# Altium schematic symbol library ZX1541 Interfac in THT.SCHLIB: 23 symbols
Pins are listed as number, name and electrical type; pins without a type are passive.

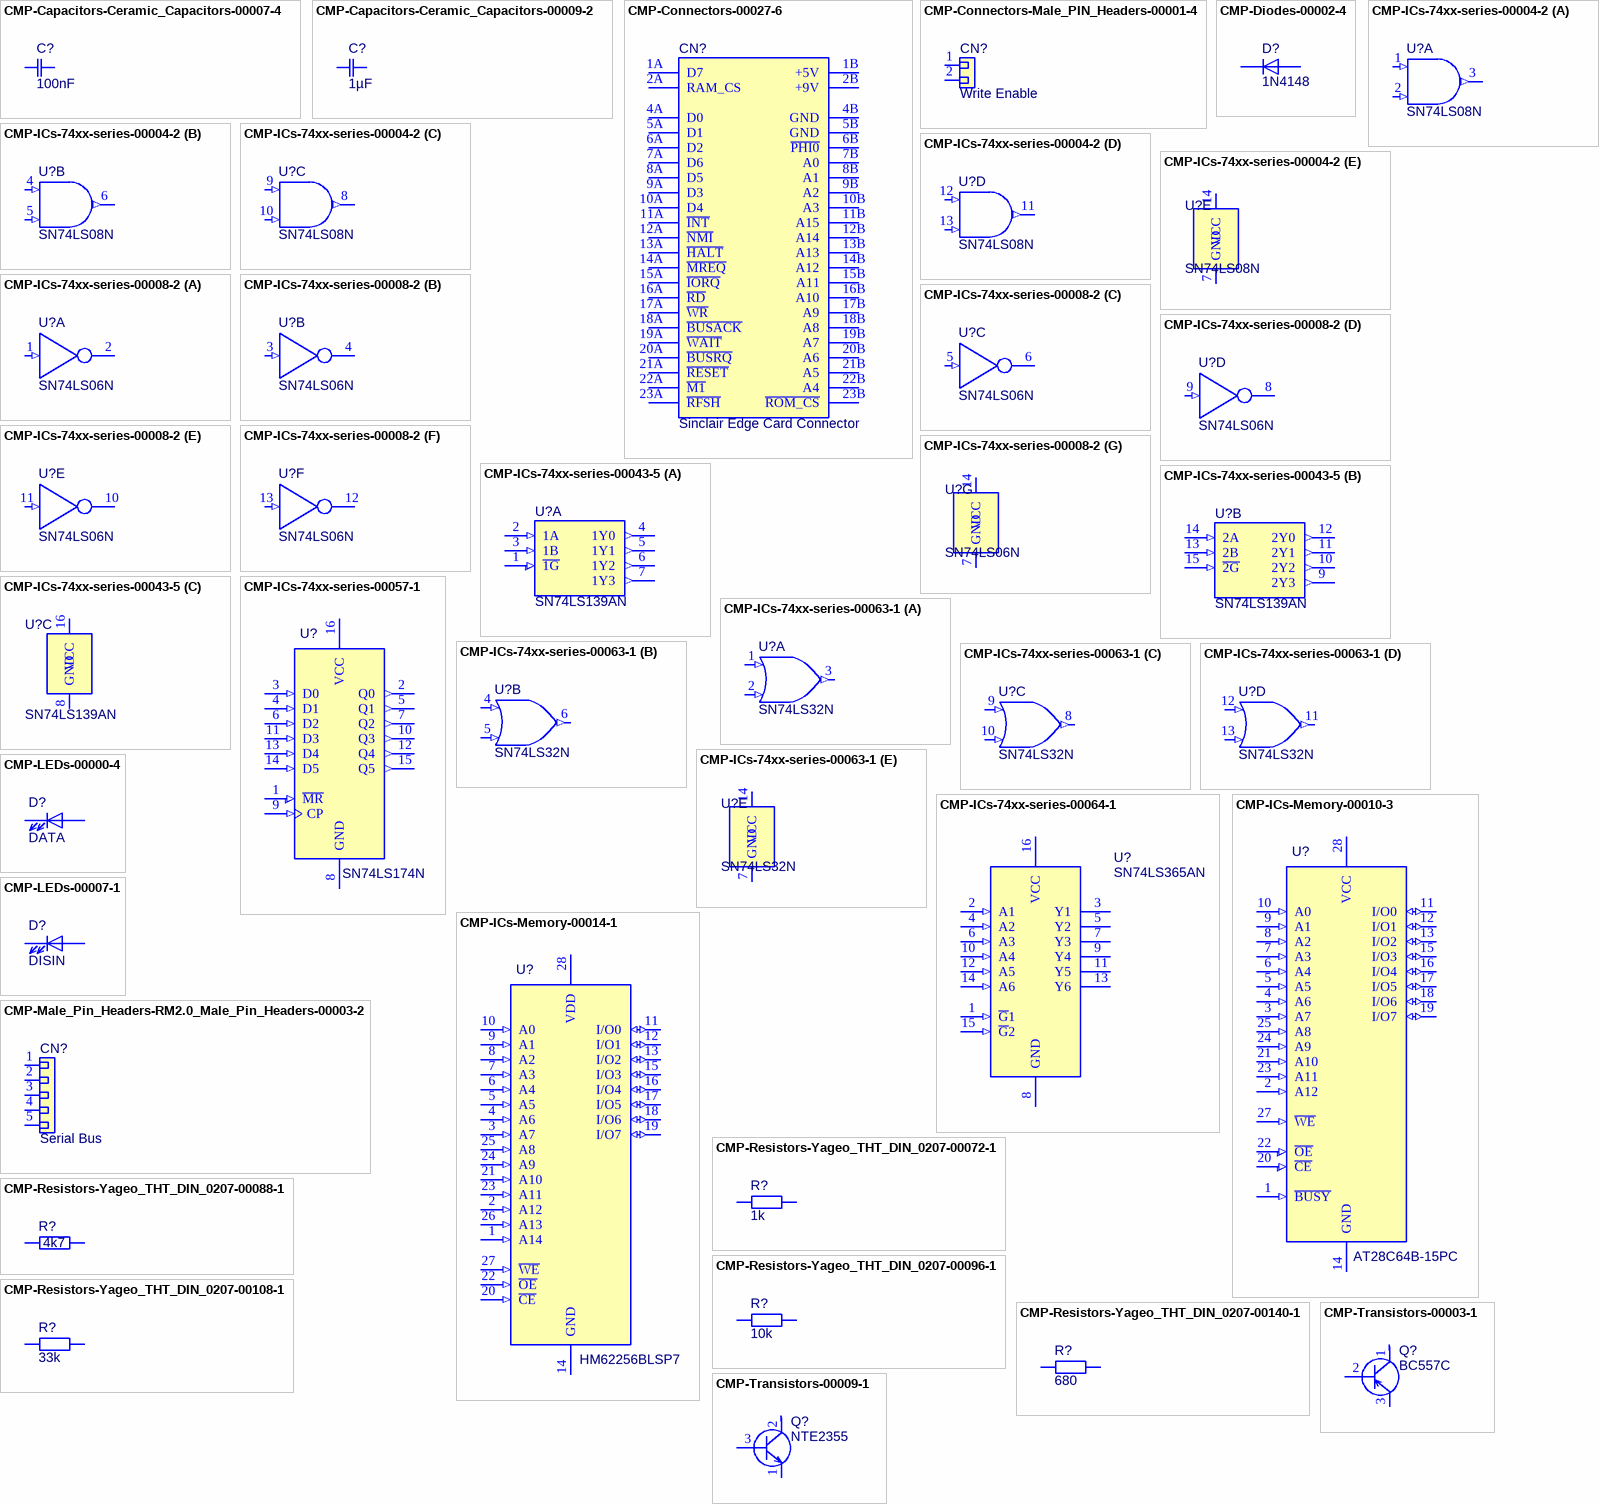
[diagram p0: symbols CMP-Capacitors-Ceramic_Capacitors-00007-4 to CMP-Transistors-00009-1]

## CMP-Capacitors-Ceramic_Capacitors-00007-4
designator C?, comment 100nF
Ceramic Disc Capacitors 100nF -20%~+80% 50V Through Hole,P=2.54mm RoHS; ComponentLink1URL: https://lcsc.com/product-detail/Others_Dersonic-CC1H104ZA1PD3F5O3000_C353909.html; Component Type: Ceramic Capacitors
footprint CAP Disc 100nF P2.54mm D5.5mm T3mm
pins: 1, 2

## CMP-Capacitors-Ceramic_Capacitors-00009-2
designator C?, comment 1µF
Multilayer Ceramic Capacitors MLCC - Leaded 25volts 1uF 10% X7R; Manufacturer: KEMET; Manufacturer Part Number: C315C105K3R5TA; Dissipation Factor: 3.5%; Temperature Coefficient: 2.2ppm/°C; Voltage: 25V; Lead Diameter: 0.51mm; Lead/Base Style: Straight; Height: 2.54mm; Package Quantity: 500; Max Operating Temperature: 125°C; Termination: Radial; Width: 0.1inch; Lead Pitch: 0.1inch; Min Operating Temperature: -55°C; Depth: 2.54mm; Height - Seated (Max): 0.21inch; Voltage Rating (DC): 25V; Length: 0.15inch; Voltage Rating: 25V; Case/Package: Radial; Tolerance: 10%; Dielectric: X7R; Capacitance: 1uF; Packaging: Bulk; Mount: Through Hole,PCB; Dielectric Material: Ceramic; Component Type: Ceramic Capacitors
footprint CAP 1µF C315C105K3R5TA P2.54mm
pins: 1, 2

## CMP-Connectors-00027-6
designator CN?, comment Sinclair Edge Card Connector
Component Type: Connectors
footprint Sinclair Card Connector (C64 Expansion Port EDGE Connector Straight)
pins: 1A D7, 1B +5V (power), 2A RAM_CS, 2B +9V (power), 4A D0, 4B GND (power), 5A D1, 5B GND (power), 6A D2, 6B ~{PHI0}, 7A D6, 7B A0, 8A D5, 8B A1, 9A D3, 9B A2, 10A D4, 10B A3, 11A ~{INT}, 11B A15, 12A ~{NMI}, 12B A14, 13A ~{HALT}, 13B A13, 14A ~{MREQ}, 14B A12, 15A ~{IORQ}, 15B A11, 16A ~{RD}, 16B A10, 17A ~{WR}, 17B A9, 18A ~{BUSACK}, 18B A8, 19A ~{WAIT}, 19B A7, 20A ~{BUSRQ}, 20B A6, 21A ~{RESET}, 21B A5, 22A ~{M1}, 22B A4, 23A ~{RFSH}, 23B ~{ROM_CS}

## CMP-Connectors-Male_PIN_Headers-00001-4
designator CN?, comment Write Enable
CONN HEADER .100" SNGL STR 2POS; Manufacturer: Sullins; Manufacturer Part Number: PRPC002SFAN-RC; Number of Positions: 2; Pitch: 0.1inch; Connector Type: Male Pin; Color: Black; Package Quantity: 1; Mount: Through Hole; Contact Plating: Gold; Contact Mating Length: 0.318inch; Termination: Solder; Number of Rows: 1; Packaging: Bulk; Component Type: Male PIN Headers
footprint Pin Header 01x02 2.54mm Horizontal Male
pins: 1, 2

## CMP-Diodes-00002-4
designator D?, comment 1N4148
NEXPERIA - 1N4148 - DIODE, 1N4148 AMMO-BOX 10K; Manufacturer: NXP Semiconductors; Reverse Recovery Time: 4ns; Capacitance: 4pF; Element Configuration: Single; Current: 4A; Output Current: 200mA; Voltage Rating (DC): 100V; Max Power Dissipation: 500mW; Polarity: Standard; Forward Voltage: 1V; Weight: 0.01lb; Lead Free: Lead Free; Length: 2.5inch; Termination: Axial; Voltage: 100V; Forward Current: 200mA; Width: 0.25inch; Packaging: Ammo Pack; Max Repetitive Reverse Voltage (Vrrm): 100V; Max Operating Temperature: 200°C; Number of Pins: 2; Case/Package: SOD; Max Forward Surge Current (Ifsm): 4A; Height: 0.25inch; Peak Non-Repetitive Surge Current: 4A; Radiation Hardening: No; REACH SVHC: No SVHC; Current Rating: 200mA; Min Operating Temperature: -65°C; Manufacturer Part Number: 1N4148; Component Type: Diodes
footprint 1N4148 P=5.08mm
pins: 1, 2

## CMP-ICs-74xx-series-00004-2
designator U?, comment SN74LS08N
IC GATE AND 4CH 2-INP 14DIP; Manufacturer: Texas Instruments; Low Level Output Current: 8mA; Number of Circuits: 4; Number of Outputs: 1; Schmitt Trigger Input: No; Quiescent Current: 4.4mA; Min Supply Voltage: 4.75V; Number of Input Lines: 2; High Level Output Current: -400uA; Max Supply Voltage: 5.25V; Turn-On Delay Time: 25ns; Operating Supply Voltage: 5V; Propagation Delay: 20ns; Lead Free: Lead Free; Number of Gates: 4; Termination: Through Hole; Height: 4.57mm; Number of Elements: 4; Width: 6.35mm; Logic Function: AND; Weight: 0.032734oz; Max Operating Temperature: 70°C; Number of Bits: 4; Number of Inputs: 2; Number of Output Lines: 1; Packaging: Rail/Tube; Case/Package: PDIP; Mount: Through Hole; Max Output Current: 8mA; Package Quantity: 25; Output Current: 8mA; REACH SVHC: No SVHC; Contact Plating: Gold; Radiation Hardening: No; Min Operating Temperature: 0°C; Length: 19.3mm; Number of Pins: 14; Manufacturer Part Number: SN74LS08N; Component Type: 74xx-series
footprint SN74LS08N with Socket
footprint SN74LS08N
part A pins: 1 1A (in), 2 1B (in), 3 1Y (out)
part B pins: 4 2A (in), 5 2B (in), 6 2Y (out)
part C pins: 8 3Y (out), 9 3A (in), 10 3B (in)
part D pins: 11 4Y (out), 12 4A (in), 13 4B (in)
part E pins: 7 GND, 14 VCC (power)

## CMP-ICs-74xx-series-00008-2
designator U?, comment SN74LS06N
IC INVERTER OPEN COL 6CH 14DIP; Manufacturer: Texas Instruments; Turn-On Delay Time: 20ns; Operating Supply Voltage: 5V; Schmitt Trigger Input: No; Number of Circuits: 6; Number of Inputs: 1; Low Level Output Current: 40mA; Polarity: Inverting; High Level Output Current: -250uA; Max Supply Voltage: 5.25V; Logic Function: Buffer,Inverter,Inverting; Min Supply Voltage: 4.75V; Nominal Supply Current: 100uA; Max Operating Temperature: 70°C; Height: 4.57mm; Radiation Hardening: No; Mount: Through Hole; Number of Pins: 14; Min Operating Temperature: 0°C; Termination: Through Hole; Case/Package: PDIP; Number of Outputs: 6; Lead Free: Lead Free; Number of Elements: 6; Packaging: Rail/Tube; Number of Output Lines: 6; REACH SVHC: No SVHC; Length: 19.3mm; Number of Channels: 6; Propagation Delay: 20ns; Number of Gates: 6; Number of Bits: 6; Number of Input Lines: 6; Width: 6.35mm; Package Quantity: 25; Manufacturer Part Number: SN74LS06N; Component Type: 74xx-series
footprint SN74LS06N with Socket
footprint SN74LS06N
part A pins: 1 1A (in), 2 1Y (oc)
part B pins: 3 2A (in), 4 2Y (oc)
part C pins: 5 3A (in), 6 3Y (oc)
part D pins: 8 4Y (oc), 9 4A (in)
part E pins: 10 5Y (oc), 11 5A (in)
part F pins: 12 6Y (oc), 13 6A (in)
part G pins: 7 GND, 14 VCC (power)

## CMP-ICs-74xx-series-00043-5
designator U?, comment SN74LS139AN
TEXAS INSTRUMENTS         SN74LS139AN            IC, DECODER/DEMUX, 74LS139; Number of Input Lines: 2; Propagation Delay: 33ns; Polarity: Inverting; Max Supply Voltage: 5.25V; Bandwidth: 35MHz; Operating Supply Voltage: 5V; Number of Output Lines: 4; Low Level Output Current: 8mA; Max Power Dissipation: 200mW; Throw Configuration: DP4T; High Level Output Current: -400uA; Supply Type: Single; Nominal Supply Current: 100uA; Logic Function: Demultiplexer,Decoder; Min Supply Voltage: 4.75V; Turn-On Delay Time: 38ns; Number of Channels: 2; Lead Free: Lead Free; Independent Circuits: 2; Length: 19.3mm; Number of Bits: 4; Number of Inputs: 2; Number of Outputs: 4; Weight: 0.03357oz; Number of Pins: 16; REACH SVHC: No SVHC; Number of Circuits: 2; Packaging: Rail/Tube; Radiation Hardening: No; Package Quantity: 25; Case/Package: PDIP; Max Operating Temperature: 70°C; Height: 4.57mm; Width: 6.35mm; Number of Elements: 2; Mount: Through Hole; Min Operating Temperature: 0°C; Manufacturer: Texas Instruments; Manufacturer Part Number: SN74LS139AN; Component Type: 74xx-series
footprint SN74LS139N with Socket
footprint SN74LS139N
part A pins: 1 ~{1G} (in), 2 1A (in), 3 1B (in), 4 1Y0 (out), 5 1Y1 (out), 6 1Y2 (out), 7 1Y3 (out)
part B pins: 9 2Y3 (out), 10 2Y2 (out), 11 2Y1 (out), 12 2Y0 (out), 13 2B (in), 14 2A (in), 15 ~{2G} (in)
part C pins: 8 GND, 16 VCC (power)

## CMP-ICs-74xx-series-00057-1
designator U?, comment SN74LS174N
Flip Flop D-Type Bus Interface Pos-Edge 1-Element 16-Pin PDIP Tube; Manufacturer: Texas Instruments; Number of Elements: 1; Number of Circuits: 7; Number of Output Lines: 2; Polarity: Non-Inverting; Output Current: 8mA; Operating Supply Voltage: 5V; Number of Bits per Element: 6; Output Type: TTL; Frequency: 40MHz; Turn-On Delay Time: 20ns; Clock Edge Trigger Type: Positive Edge; Logic Function: D-Type,Flip-Flop; Min Supply Voltage: 4.75V; Propagation Delay: 30ns; Max Supply Voltage: 5.25V; High Level Output Current: -400uA; Package Quantity: 25; Packaging: Rail/Tube; Length: 19.3mm; Number of Input Lines: 2; Radiation Hardening: No; Case/Package: PDIP; Mount: Through Hole; Max Operating Temperature: 70°C; Number of Bits: 6; Lead Free: Lead Free; Height: 4.57mm; Low Level Output Current: 8mA; Max Frequency: 40MHz; REACH SVHC: No SVHC; Weight: 0.03357oz; Width: 6.35mm; Number of Pins: 16; Min Operating Temperature: 0°C; Manufacturer Part Number: SN74LS174N; Component Type: 74xx-series
footprint SN74LS174N with Socket
footprint SN74LS174N
pins: 1 ~{MR} (in), 2 Q0 (out), 3 D0 (in), 4 D1 (in), 5 Q1 (out), 6 D2 (in), 7 Q2 (out), 8 GND (power), 9 CP (in), 10 Q3 (out), 11 D3 (in), 12 Q4 (out), 13 D4 (in), 14 D5 (in), 15 Q5 (out), 16 VCC (power)

## CMP-ICs-74xx-series-00063-1
designator U?, comment SN74LS32N
Texas Instruments SN74LS32N, Quad 2-Input OR Logic Gate, 4.75  5.25 V, 14-Pin PDIP; Output Type: TTL; Logic Function: OR GATE; Max Supply Voltage: 5.25V; Number of Elements: 4; Min Supply Voltage: 4.75V; Output Current: 8mA; Propagation Delay: 22ns; Nominal Supply Current: 100uA; Number of Input Lines: 2; Number of Output Lines: 1; High Level Output Current: -400uA; Operating Supply Voltage: 5V; Schmitt Trigger Input: No; Quiescent Current: 4.9mA; Weight: 0.032734oz; Termination: Through Hole; Length: 19.3mm; Mount: Through Hole; Package Quantity: 25; Number of Bits: 4; Min Operating Temperature: 0°C; Width: 6.35mm; Turn-On Delay Time: 22ns; Packaging: Rail/Tube; Number of Pins: 14; Number of Outputs: 1; Low Level Output Current: 8mA; Case/Package: PDIP; Lead Free: Lead Free; Number of Inputs: 2; Radiation Hardening: No; REACH SVHC: No SVHC; Number of Circuits: 4; Height: 4.57mm; Number of Gates: 4; Contact Plating: Gold; Max Operating Temperature: 70°C; Manufacturer: Texas Instruments; Manufacturer Part Number: SN74LS32N; Component Type: 74xx-series
footprint SN74LS32N with Socket (Quadruple 2-Input Positive-OR Gates)
footprint SN74LS32N (Quadruple 2-Input Positive-OR Gates)
part A pins: 1 1A (in), 2 1B (in), 3 1Y (out)
part B pins: 4 2A (in), 5 2B (in), 6 2Y (out)
part C pins: 8 3Y (out), 9 3A (in), 10 3B (in)
part D pins: 11 4Y (out), 12 4A (in), 13 4B (in)
part E pins: 7 GND, 14 VCC (power)

## CMP-ICs-74xx-series-00064-1
designator U?, comment SN74LS365AN
Buffer/Line Driver 6-CH Non-Inverting 3-ST Bipolar 16-Pin PDIP Tube; Manufacturer: Texas Instruments; Min Supply Voltage: 4.75V; Number of Bits: 6; Schmitt Trigger Input: No; Propagation Delay: 22ns; High Level Output Current: -2.6mA; Operating Supply Voltage: 5V; Low Level Output Current: 24mA; Logic Function: Buffer,Inverting; Number of Elements: 1; Max Supply Voltage: 5.25V; Polarity: Non-Inverting; Max Operating Temperature: 70°C; Number of Input Lines: 6; Case/Package: PDIP; Number of Output Lines: 6; Length: 19.3mm; Number of Bits per Element: 6; Lead Free: Lead Free; Number of Inputs: 6; Height: 4.57mm; Min Operating Temperature: 0°C; REACH SVHC: No SVHC; Turn-On Delay Time: 22ns; Number of Outputs: 6; Number of Channels: 6; Number of Pins: 16; Max Output Current: 24mA; Package Quantity: 25; Termination: Through Hole; Packaging: Rail/Tube; Output Current: 24mA; Mount: Through Hole; Width: 6.35mm; Manufacturer Part Number: SN74LS365AN; Component Type: 74xx-series
footprint SN74LS365A with Socket (hex buffer, non-inverting outputs)
footprint SN74LS365A (hex buffer, non-inverting outputs)
pins: 1 ~{G}1 (in), 2 A1 (in), 3 Y1 (oc), 4 A2 (in), 5 Y2 (oc), 6 A3 (in), 7 Y3 (oc), 8 GND (power), 9 Y4 (oc), 10 A4 (in), 11 Y5 (oc), 12 A5 (in), 13 Y6 (oc), 14 A6 (in), 15 ~{G}2 (in), 16 VCC (power)

## CMP-ICs-Memory-00010-3
designator U?, comment AT28C64B-15PC
IC EEPROM 64KBIT 150NS 28DIP; Manufacturer: Microchip / Atmel; Memory Size: 64Kb; Interface: SPI,Parallel; Max Supply Voltage: 5.5V; Frequency: 150GHz; Min Supply Voltage: 4.5V; Nominal Supply Current: 40mA; Lead Free: Contains Lead; Packaging: Rail/Tube; Min Operating Temperature: 0°C; Density: 64Kb; Memory Type: EEPROM; Max Operating Temperature: 70°C; Number of Pins: 28; Mount: Through Hole; Package Quantity: 14; Case/Package: PDIP; Access Time: 150ns; Manufacturer Part Number: AT28C64B-15PC; Component Type: Memorys
footprint 28C64-150 with Socket
footprint 28C64-150
footprint 28C64-150 with precision Socket
pins: 1 ~{BUSY} (in), 2 A12 (in), 3 A7 (in), 4 A6 (in), 5 A5 (in), 6 A4 (in), 7 A3 (in), 8 A2 (in), 9 A1 (in), 10 A0 (in), 11 I/O0 (io), 12 I/O1 (io), 13 I/O2 (io), 14 GND (power), 15 I/O3 (io), 16 I/O4 (io), 17 I/O5 (io), 18 I/O6 (io), 19 I/O7 (io), 20 ~{CE} (in), 21 A10 (in), 22 ~{OE} (in), 23 A11 (in), 24 A9 (in), 25 A8 (in), 26 N/C hidden, 27 ~{WE} (in), 28 VCC (power)

## CMP-ICs-Memory-00014-1
designator U?, comment HM62256BLSP7
Contact for details; Manufacturer: Hitachi; Case/Package: PDIP; Manufacturer Part Number: HM62256BLSP7; Component Type: Memorys
footprint Hitachi HM62256BLSP-7 SRAM 32kx8 with Socket
footprint Hitachi HM62256BLSP-7 SRAM 32kx8
pins: 1 A14 (in), 2 A12 (in), 3 A7 (in), 4 A6 (in), 5 A5 (in), 6 A4 (in), 7 A3 (in), 8 A2 (in), 9 A1 (in), 10 A0 (in), 11 I/O0 (io), 12 I/O1 (io), 13 I/O2 (io), 14 GND (power), 15 I/O3 (io), 16 I/O4 (io), 17 I/O5 (io), 18 I/O6 (io), 19 I/O7 (io), 20 ~{CE} (in), 21 A10 (in), 22 ~{OE} (in), 23 A11 (in), 24 A9 (in), 25 A8 (in), 26 A13 (in), 27 ~{WE} (in), 28 VDD (power)

## CMP-LEDs-00000-4
designator D?, comment DATA
WURTH ELEKTRONIK   151033RS03000   LED, 3MM,  RED, 2600MCD, 621NM; Manufacturer: Wurth Electronics; Test Current: 20mA; Lens Style: Clear,Circular,Round; Forward Voltage: 2V; Viewing Angle: 30°; Forward Current: 30mA; Packaging: Bulk; Color: Red; Package Quantity: 1; Mount: Through Hole; Luminous Intensity: 2600mcd; Wavelength: 621nm; Lens Size: 3mm; Dominant Wavelength: 621nm; Case/Package: Radial; Min Operating Temperature: -40°C; REACH SVHC: Unknown; Max Operating Temperature: 85°C; Height: 5.55mm; Manufacturer Part Number: 151033RS03000; Component Type: LEDs
footprint LED 3mm Red Straight
footprint LED 3mm Red Right Angle 2mm
footprint LED 3mm Red Right Angle 4mm
footprint LED 3mm Red Right Angle 6mm
pins: 1, 2

## CMP-LEDs-00007-1
designator D?, comment DISIN
WURTH ELEKTRONIK - 151033GS03000 - LED, Green, T-1 (3mm), 530 nm, 3.2 V, 30 mA, 15 cd RoHS Compliant: Yes; Manufacturer: Wurth Electronics; Forward Voltage: 3.2V; Luminous Intensity: 15000mcd; Lens Style: Clear,Round,Circular; Wavelength: 530nm; Viewing Angle: 30°; Forward Current: 30mA; Test Current: 20mA; Mount: Through Hole; Package Quantity: 1; Case/Package: Radial; Max Operating Temperature: 85°C; Color: Green; REACH SVHC: Unknown; Height: 5.55mm; Lens Size: 3mm; Min Operating Temperature: -40°C; Packaging: Bulk; Dominant Wavelength: 530nm; Manufacturer Part Number: 151033GS03000; Component Type: LEDs
footprint LED 3mm Green Straight
footprint LED 3mm Green Right Angle 2mm
footprint LED 3mm Green Right Angle 4mm
footprint LED 3mm Green Right Angle 6mm
pins: 1, 2

## CMP-Male_Pin_Headers-RM2.0_Male_Pin_Headers-00003-2
designator CN?, comment Serial Bus
Conn Unshrouded Header HDR 5 POS 2mm Solder ST Thru-Hole Automotive Bulk; Manufacturer: Samtec; Manufacturer Part Number: TMM-105-03-S-S; Gender: Male; Number of Contacts: 5; Max Voltage Rating (AC): 500V; Min Operating Temperature: -55°C; Lead Free: Lead Free; Housing Material: Polymer; Radiation Hardening: No; Max Operating Temperature: 125°C; Housing Color: Black; Termination: Solder; Contact Plating: Gold; Number of Rows: 1; Packaging: Bulk; Contact Material: Bronze; Pitch: 2mm; Depth: 1.97mm; Orientation: Straight; Length: 10mm; Component Type: RM2.00 Male Pin Headers
footprint 01x05 RM2.0 mm Male Pin Header - MPE-Garry 150-1-005-0-S-XS0-0835
pins: 1, 2, 3, 4, 5

## CMP-Resistors-Yageo_THT_DIN_0207-00072-1
designator R?, comment 1k
RES 1K OHM 1/4W 5% AXIAL; Manufacturer: Yageo; Manufacturer Part Number: CFR-25JB-52-1K; Max Power Dissipation: 250mW; Resistance: 1kR; Temperature Coefficient: 500ppm/°C; Composition: Carbon Film; Lead Free: Lead Free; Case/Package: Axial; Packaging: Bulk; Length: 0.248inch; Min Operating Temperature: -55°C; Tolerance: 5%; Number of Terminations: 2; Package Quantity: 200; Max Operating Temperature: 155°C; Power Rating: 250mW; Component Type: Yageo THT DIN 0207
footprint 1,0 kOhm R Axial DIN0207 L6.3mm D2.5mm P7.62mm Horizontal
footprint 1,0 kOhm R Axial DIN0207 L6.3mm D2.5mm P10.16mm Horizontal
footprint 1,0 kOhm R Axial DIN0207 L6.3mm D2.5mm P15.24mm Horizontal
footprint 1,0 kOhm R Axial DIN0207 L6.3mm D2.5mm P2.54mm Vertical
footprint 1,0 kOhm R Axial DIN0207 L6.3mm D2.5mm P5.08mm Vertical
pins: 1, 2

## CMP-Resistors-Yageo_THT_DIN_0207-00088-1
designator R?, comment 4k7
RES 4.7K OHM 1/4W 5% AXIAL; Manufacturer: Yageo; Manufacturer Part Number: CFR-25JB-52-4K7; Resistance: 4.7kR; Max Power Dissipation: 250mW; Temperature Coefficient: 500ppm/°C; Length: 0.248inch; Number of Terminations: 2; Composition: Carbon Film; Packaging: Bulk; Max Operating Temperature: 155°C; Package Quantity: 200; Case/Package: Axial; Tolerance: 5%; Min Operating Temperature: -55°C; Power Rating: 250mW; Lead Free: Lead Free; Component Type: Yageo THT DIN 0207
footprint 4,7 kOhm R Axial DIN0207 L6.3mm D2.5mm P7.62mm Horizontal
footprint 4,7 kOhm R Axial DIN0207 L6.3mm D2.5mm P10.16mm Horizontal
footprint 4,7 kOhm R Axial DIN0207 L6.3mm D2.5mm P15.24mm Horizontal
footprint 4,7 kOhm R Axial DIN0207 L6.3mm D2.5mm P2.54mm Vertical
footprint 4,7 kOhm R Axial DIN0207 L6.3mm D2.5mm P5.08mm Vertical
pins: 1, 2

## CMP-Resistors-Yageo_THT_DIN_0207-00096-1
designator R?, comment 10k
RES 10K OHM 1/4W 5% AXIAL; Manufacturer: Yageo; Manufacturer Part Number: CFR-25JB-52-10K; Resistance: 10kR; Temperature Coefficient: 500ppm/°C; Max Power Dissipation: 250mW; Case/Package: Axial; Number of Terminations: 2; Composition: Carbon Film; Packaging: Bulk; Min Operating Temperature: -55°C; Lead Free: Lead Free; Package Quantity: 200; Max Operating Temperature: 155°C; Length: 0.248inch; Tolerance: 5%; Component Type: Yageo THT DIN 0207
footprint 10 kOhm R Axial DIN0207 L6.3mm D2.5mm P7.62mm Horizontal
footprint 10 kOhm R Axial DIN0207 L6.3mm D2.5mm P10.16mm Horizontal
footprint 10 kOhm R Axial DIN0207 L6.3mm D2.5mm P15.24mm Horizontal
footprint 10 kOhm R Axial DIN0207 L6.3mm D2.5mm P2.54mm Vertical
footprint 10 kOhm R Axial DIN0207 L6.3mm D2.5mm P5.08mm Vertical
pins: 1, 2

## CMP-Resistors-Yageo_THT_DIN_0207-00108-1
designator R?, comment 33k
RES 33K OHM 1/4W 5% AXIAL; Manufacturer: Yageo; Manufacturer Part Number: CFR-25JB-52-33K; Temperature Coefficient: 500ppm/°C; Max Power Dissipation: 250mW; Resistance: 33kR; Max Operating Temperature: 155°C; Tolerance: 5%; Min Operating Temperature: -55°C; Package Quantity: 200; Case/Package: Axial; Packaging: Bulk; Number of Terminations: 2; Length: 0.248inch; Composition: Carbon Film; Component Type: Yageo THT DIN 0207
footprint 33 kOhm R Axial DIN0207 L6.3mm D2.5mm P7.62mm Horizontal
footprint 33 kOhm R Axial DIN0207 L6.3mm D2.5mm P10.16mm Horizontal
footprint 33 kOhm R Axial DIN0207 L6.3mm D2.5mm P15.24mm Horizontal
footprint 33 kOhm R Axial DIN0207 L6.3mm D2.5mm P2.54mm Vertical
footprint 33 kOhm R Axial DIN0207 L6.3mm D2.5mm P5.08mm Vertical
pins: 1, 2

## CMP-Resistors-Yageo_THT_DIN_0207-00140-1
designator R?, comment 680
Res 680K Ohm 1/4W 5% Axial; Manufacturer: Yageo; Manufacturer Part Number: CFR-25JB-52-680K; Resistance: 680kR; Max Power Dissipation: 250mW; Temperature Coefficient: -700ppm/°C; Package Quantity: 200; Composition: Carbon Film; Max Operating Temperature: 155°C; Packaging: Bulk; Number of Terminations: 2; Min Operating Temperature: -55°C; Length: 0.248inch; Case/Package: Axial; Tolerance: 5%; Component Type: Yageo THT DIN 0207
footprint 680 kOhm R Axial DIN0207 L6.3mm D2.5mm P7.62mm Horizontal
footprint 680 kOhm R Axial DIN0207 L6.3mm D2.5mm P10.16mm Horizontal
footprint 680 kOhm R Axial DIN0207 L6.3mm D2.5mm P15.24mm Horizontal
footprint 680 kOhm R Axial DIN0207 L6.3mm D2.5mm P2.54mm Vertical
footprint 680 kOhm R Axial DIN0207 L6.3mm D2.5mm P5.08mm Vertical
pins: 1, 2

## CMP-Transistors-00003-1
designator Q?, comment BC557C
Trans GP BJT PNP 45V 0.1A Automotive 3-Pin TO-92 T/R; Manufacturer: Diotec; Number of Elements: 1; Frequency: 150MHz; Emitter Base Voltage (VEBO): 5V; Power Dissipation: 500mW; Collector Base Voltage (VCBO): 50V; Max Operating Temperature: 150°C; Case/Package: TO-92; Collector Emitter Voltage (VCEO): 45V; Packaging: Tape and Reel; Min Operating Temperature: -55°C; Polarity: PNP; Mount: Through Hole; Number of Pins: 3; Manufacturer Part Number: BC557C; Component Type: Transistors
footprint BC557C
pins: 1, 2, 3

## CMP-Transistors-00009-1
designator Q?, comment NTE2355
PRE-BIASED DIG TRANSISTOR, 50V, TO-92; Transistor Polarity:NPN; Collector Emitter Voltage V(br)ceo:50V; Transition Frequency ft:250MHz; Power Dissipation Pd:300mW; DC Collector Current:100mA; DC Current Gain hFE:50; No. of Pins:3 ;RoHS Compliant: Yes; Manufacturer: NTE Electronics; Power Dissipation: 300mW; Element Configuration: Single; Polarity: NPN; Transition Frequency: 250MHz; Max Collector Current: 200mA; Number of Pins: 3; Mount: Through Hole; Max Operating Temperature: 150°C; Weight: 0.016lb; Height: 0.5inch; REACH SVHC: No SVHC; Length: 6inch; Collector Emitter Breakdown Voltage: 50V; Width: 3inch; Collector Emitter Voltage (VCEO): 50V; Max Power Dissipation: 300mW; Min Operating Temperature: -55°C; Collector Base Voltage (VCBO): 50V; Case/Package: TO-92; Manufacturer Part Number: NTE2355; Component Type: Transistors
footprint NTE 2355 (NPN Silicon Digital Transistors, 50V, 100mA, 0,3 W, TO-92)
pins: 1, 2, 3